# Altium footprint library Keyboard_parts.PcbLib: 22 footprints (part 1 of 2)
Each footprint in its own frame and in the unit in brackets; x right, y up, seen from the top. Pads: shape width x height; smd on the part's side, far side on the other; paste and mask are expansions set on the pad; w line width, h text height; cw(c..) or ccw(c..) is an arc to the next point about the centre after c.
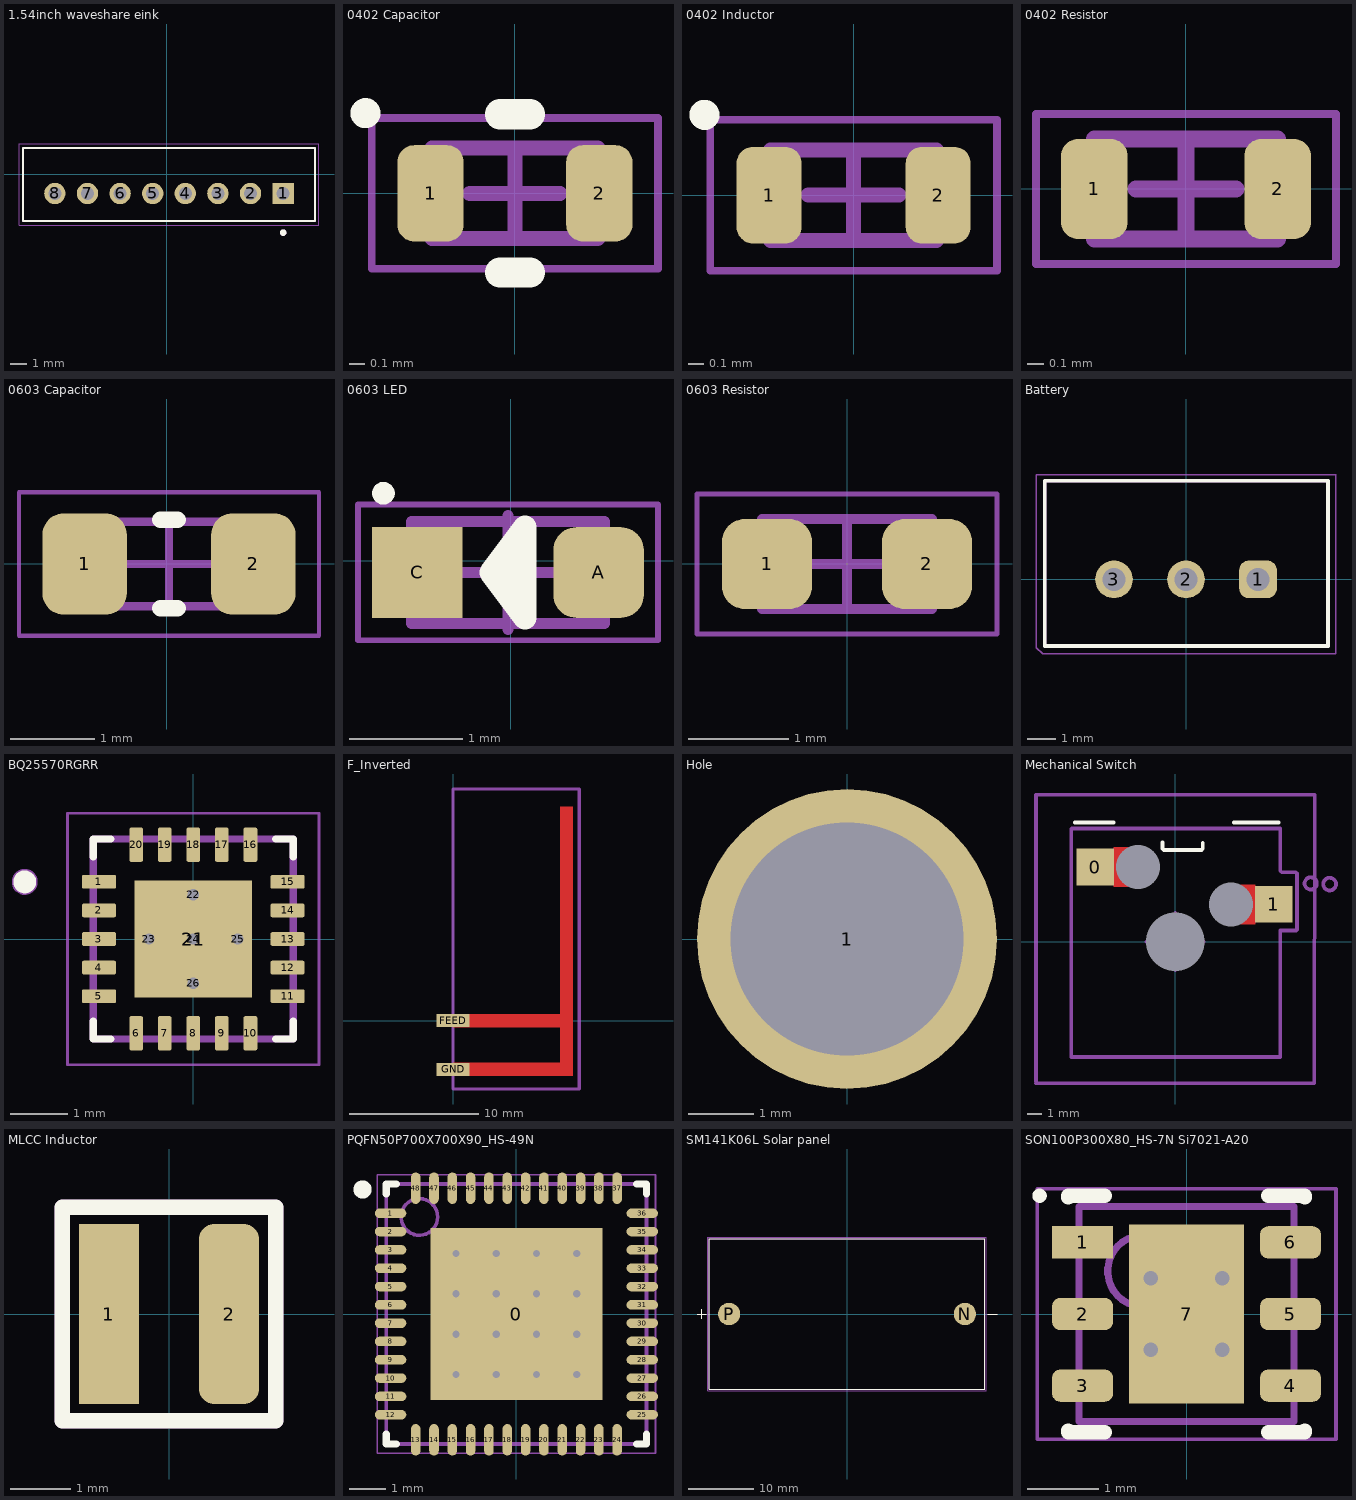
[diagram p0: the footprints below, top view; thin cyan lines are the x and y axes]

## 1.54inch waveshare eink [mm] "200x200, 1.54inch E-Ink display module"
pads (8):
  rect 1.308x1.308 / inner round 1.308 / far side rect 1.308x1.308 hole 0.8: 1(7.127,-1.185)
  round 1.308 hole 0.8: 2(5.127,-1.185) 3(3.127,-1.185) 4(1.127,-1.185) 5(-0.873,-1.185) 6(-2.873,-1.185) 7(-4.873,-1.185) 8(-6.873,-1.185)
Top Overlay:
  circle w0.2: c7.127,-3.585 r0.1
  lines w0.127: -8.823,-2.885 9.077,-2.885 9.077,1.615 -8.823,1.615 -8.823,-2.885
Mechanical 13:
  circle w0.2: c7.127,-3.585 r0.1
  lines w0.127: -8.823,-2.885 -8.823,1.615 9.077,1.615 9.077,-2.885 -8.823,-2.885
Mechanical 15:
  lines w0.05: -9.073,-3.135 -9.073,1.865 9.327,1.865 9.327,-3.135 -9.073,-3.135
3D body "step_temp.STEP": height 6, standoff -3.4, extent -8.756,-2.885 9.144,1.615

## 0402 Capacitor [mm]
height 0.55
pads (2):
  rrect50% 0.44x0.64 smd: 1(-0.56,0) 2(0.56,0)
Top Overlay:
  circle w0.1: c-0.992,0.532 r0.05
  lines w0.2: -0.1,-0.525 0.1,-0.525 ; -0.1,0.525 0.1,0.525
Mechanical 13:
  lines w0.1: -0.55,-0.3 -0.55,0.3 0.55,0.3 0.55,-0.3 -0.55,-0.3
  text ".Designator" at -0.55,-0.3 h0.4
Mechanical 15:
  lines w0.05: -0.95,-0.5 -0.95,0.5 0.95,0.5 0.95,-0.5 -0.95,-0.5
  lines w0.1: -0.3,0 0.3,0 ; 0,-0.3 0,0.3
3D body "Chip2PinSM127P600-8N.step": height 0.55, standoff 0, extent -0.55,-0.3 0.55,0.3

## 0402 Inductor [mm]
height 0.55
pads (2):
  rrect50% 0.43x0.64 smd: 1(-0.56,0) 2(0.56,0)
Top Overlay:
  circle w0.1: c-0.987,0.532 r0.05
Mechanical 13:
  lines w0.1: -0.55,-0.3 0.55,-0.3 0.55,0.3 -0.55,0.3 -0.55,-0.3
  text ".Designator" at -0.55,-0.3 h0.4
Mechanical 15:
  lines w0.05: -0.95,-0.5 0.95,-0.5 0.95,0.5 -0.95,0.5 -0.95,-0.5
  lines w0.1: -0.3,0 0.3,0 ; 0,-0.3 0,0.3
3D body: height 0.55, standoff 0, extent 0.05,-0.3 0.55,0.3
3D body: height 0.55, standoff 0, extent -0.55,-0.3 -0.05,0.3
3D body: height 0.55, standoff 0, extent -0.05,-0.3 0.05,0.3

## 0402 Resistor [mm]
height 0.55
pads (2):
  rrect50% 0.4x0.6 smd: 1(-0.55,0) 2(0.55,0)
Mechanical 13:
  lines w0.1: -0.55,-0.3 0.55,-0.3 0.55,0.3 -0.55,0.3 -0.55,-0.3
  text ".Designator" at -0.55,-0.3 h0.4
Mechanical 15:
  lines w0.05: -0.9,-0.45 0.9,-0.45 0.9,0.45 -0.9,0.45 -0.9,-0.45
  lines w0.1: -0.3,0 0.3,0 ; 0,-0.3 0,0.3
3D body: height 0.55, standoff 0, extent 0.05,-0.3 0.55,0.3
3D body: height 0.55, standoff 0, extent -0.55,-0.3 -0.05,0.3
3D body: height 0.55, standoff 0, extent -0.05,-0.3 0.05,0.3

## 0603 Capacitor [mm] "Chip Capacitor, 2-Leads, Body 1.60x0.80mm, IPC Medium Density"
height 0.55
pads (2):
  rrect50% 1x1.2 smd: 1(-0.975,0) 2(1.025,0)
Top Overlay:
  lines w0.2: -0.075,-0.525 0.125,-0.525 ; -0.075,0.525 0.125,0.525
Mechanical 13:
  lines w0.1: -0.875,-0.5 -0.875,0.5 0.925,0.5 0.925,-0.5 -0.875,-0.5
  text ".Designator" at -0.875,-0.5 h0.4
Mechanical 15:
  lines w0.05: -1.753,-0.85 -1.753,0.85 1.803,0.85 1.803,-0.85 -1.753,-0.85
  lines w0.1: -0.475,0 0.525,0 ; 0.025,-0.5 0.025,0.5
3D body "CAP_0603_1608X10.step": height 1, standoff 0, extent -0.875,-0.5 0.925,0.5

## 0603 LED [mm] "SODFL, 2-Leads, Body 0.80x1.80mm, IPC Medium Density"
pads (2):
  rrect50% 0.8x0.8 smd: A(0.775,-0.102)
  rect 0.8x0.8 smd: C(-0.825,-0.102)
Top Overlay:
  circle w0.1: c-1.125,0.598 r0.05
  lines w0.2: -0.175,-0.102 0.025,-0.102
  lines w0.205: -0.175,-0.102 0.125,-0.502 0.125,0.298 -0.175,-0.102
Mechanical 13:
  lines w0.1: -0.875,-0.552 -0.875,0.348 0.825,0.348 0.825,-0.552 -0.875,-0.552
Mechanical 15:
  lines w0.05: -1.35,-0.702 -1.35,0.498 1.3,0.498 1.3,-0.702 -1.35,-0.702
  lines w0.1: -0.525,-0.102 0.475,-0.102 ; -0.025,-0.602 -0.025,0.398
3D body "LED_0603_WURTH_WL-SMCW_lens.step": height 0.71, standoff 0.31, extent -0.575,-0.502 0.525,0.298
3D body "LED_0603_WURTH_WL-SMCW_base.step": height 0.65, standoff 0.01, extent -0.825,-0.501 0.775,0.298

## 0603 Resistor [mm] "Common footprint for 0603 resistor"
pads (2):
  rrect50% 0.9x0.9 smd: 1(-0.8,0) 2(0.8,0)
Mechanical 13:
  lines w0.1: -0.85,-0.45 0.85,-0.45 0.85,0.45 -0.85,0.45 -0.85,-0.45
  text ".Designator" at -0.635,-0.254 h0.4
Mechanical 15:
  lines w0.05: -1.5,-0.7 1.5,-0.7 1.5,0.7 -1.5,0.7 -1.5,-0.7
  lines w0.1: -0.45,0 0.45,0 ; 0,-0.45 0,0.45
3D body "0603_1608X05N.step": height 0.45, standoff 0, extent -0.775,-0.425 0.775,0.425

## Battery [mm] "404852 3.7 V Lithium-Ion Battery Rechargeable (Secondary) 1.05Ah"
pads (3):
  rrect50% 1.308x1.308 hole 0.8: 1(2.5,0)
  round 1.308 hole 0.8: 2(0,0) 3(-2.5,0)
Top Overlay:
  lines w0.127: -4.902,-2.311 -4.902,3.429 4.928,3.429 4.928,-2.311 -4.902,-2.311
Mechanical 13:
  lines w0.127: -4.902,-2.311 -4.902,3.429 4.928,3.429 4.928,-2.311 -4.902,-2.311
Mechanical 15:
  lines w0.05: -5.207,3.632 5.199,3.632 ; -5.2,3.632 -5.2,-2.369 -4.978,-2.591 5.207,-2.591 5.199,3.658
3D body "B3B-XH-A-LF--SN---3DModel-STEP-418109.STEP": height 6.51, standoff -3.89, extent -4.922,-2.367 4.978,3.383

## BQ25570RGRR [mm] "Energy Harvesting PMIC 20-VQFN (3.5x3.5) IC ENERGY HARV CTRLR BATT 20VQFN"
pads (26):
  rrect27% 0.6x0.24 smd mask+0: 1(-1.65,1) 2(-1.65,0.5) 3(-1.65,0) 4(-1.65,-0.5) 5(-1.65,-1) 11(1.65,-1) 12(1.65,-0.5) 13(1.65,0) 14(1.65,0.5) 15(1.65,1)
  rrect27% 0.24x0.6 smd mask+0: 6(-1,-1.65) 7(-0.5,-1.65) 8(0,-1.65) 9(0.5,-1.65) 10(1,-1.65) 16(1,1.65) 17(0.5,1.65) 18(0,1.65) 19(-0.5,1.65) 20(-1,1.65)
  rect 2.05x2.05 smd paste-2 mask+0.07: 21(0,0)
  round 0.3 hole 0.2 mask+0: 22(0,0.775) 23(-0.775,0) 24(0,0) 25(0.775,0) 26(0,-0.775)
Top Overlay:
  circle w0.2: c-2.95,1 r0.1
  lines w0.127: -1.75,-1.44 -1.75,-1.75 -1.44,-1.75 ; -1.75,1.44 -1.75,1.75 -1.44,1.75 ; 1.44,-1.75 1.75,-1.75 1.75,-1.44 ; 1.44,1.75 1.75,1.75 1.75,1.44
Top Paste:
  region: -0.1,0.1 -1.02,0.1 -1.02,1.02 -0.1,1.02
  region: 1.02,0.1 0.1,0.1 0.1,1.02 1.02,1.02
  region: -0.1,-1.02 -1.02,-1.02 -1.02,-0.1 -0.1,-0.1
  region: 1.02,-1.02 0.1,-1.02 0.1,-0.1 1.02,-0.1
Top Solder:
  drawing of 20 lines, arcs and shapes, not listed
Mechanical 13:
  circle w0.254: c-2.95,1 r0.1
  circle w0.2: c-2.95,1 r0.1
  lines w0.127: -1.75,-1.75 1.75,-1.75 1.75,1.75 -1.75,1.75 -1.75,-1.75
  text ".Designator" at -1.65,-1.317 h1
Mechanical 15:
  lines w0.05: -2.2,-2.2 -2.2,2.2 2.2,2.2 2.2,-2.2 -2.2,-2.2
  lines w0.1: -0.4,0 0,0 ; 0,-0.4 0,0 ; 0,0.4 0,0 ; 0.4,0 0,0
3D body "step_temp.STEP": height 1, standoff 0, extent -1.75,-1.75 1.75,1.75

## F_Inverted [mil] "inverted f antenna with 50 ohm impedence matching"
pads (2):
  rect 100x40 smd mask-39.37: FEED(0,0) GND(0,-149)
Top Layer:
  region: 0,20 327,20 327,653 366,653 366,-169 0,-169 0,-129 327,-129 327,-20 51,-20 0,-20
Top Overlay:
  text ".Designator" at 25,696 h30
Mechanical 15:
  lines w10: 0,-209 0,-129 0,707 1,708 386,708 386,-209 2,-209

## Hole [mil]
pads (1):
  round 180 hole 140: 1(0,0)

## Mechanical Switch [mm] "Compatible with any 3-Pin/5-Pin MX mechanical keyboard with SMD-LED light or RGB-SMD light."
pads (5):
  rect 2.55x2.5 smd: 0(-5.461,5.1) 1(6.731,2.56)
  round 0 hole 3 unplated: 4(3.81,2.56) 5(-2.54,5.1)
  round 0 hole 4 unplated: 8(0,0)
Top Layer:
  region: -4.191,6.446 -3.2,6.446 -3.2,3.754 -4.191,3.754
  region: 4.47,3.906 5.461,3.906 5.461,1.214 4.47,1.214
Top Overlay:
  lines w0.254: -6.833,8.148 -4.216,8.148 ; -0.864,6.802 -0.864,6.345 -0.787,6.268 1.803,6.268 1.88,6.345 1.88,6.751 ; 3.988,8.148 7.061,8.148
Top Paste:
  region: -4.216,6.446 -4.216,3.754 -3.226,3.754 -3.124,3.855 -3.124,6.446
  region: 5.461,1.214 5.461,3.906 4.394,3.906 4.394,1.214
Mechanical 13:
  circle w0.254: c9.246,3.982 r0.417
  lines w0.254: -7.087,-7.859 -7.087,7.711 -7.061,7.736 7.163,7.736 7.163,4.841 7.264,4.739 8.23,4.739 8.306,4.663 8.306,0.827 8.255,0.777 7.163,0.777 7.163,-7.859 -7.087,-7.859
  text ".Designator" at -6.947,-7.386 h1
Mechanical 15:
  circle w0.254: c10.541,3.937 r0.433
  lines w0.254: -9.5,-9.652 9.498,-9.652 9.525,10.033 -9.5,10.033 -9.5,-9.5 ; -1.956,0 1.956,0 ; 0,-1.936 0,1.976
3D body "PG151101S11--3DModel-STEP-1.STEP": height 1.76, standoff -1.34, extent -6.666,0.91 7.834,6.8
3D body "Kailh Polia.step": height 3.81, standoff -14.74, extent -6.985,-7.856 6.965,7.744

## MLCC Inductor [mm] "2.2 µH Shielded Drum Core, Wirewound Inductor 1.8 A 66mOhm Max Nonstandard"
pads (2):
  rect 1x3 smd: 1(-1,0)
  rrect50% 1x3 smd: 2(1,0)
Top Overlay:
  lines w0.254: -1.778,-1.778 1.778,-1.778 1.778,1.778 -1.778,1.778 -1.778,1.524 -1.778,-1.778
Mechanical 13:
  lines w0.254: -1.778,-1.778 1.778,-1.778 1.778,1.778 -1.778,1.778 -1.778,-1.778
  text ".Designator" at -1.524,-1.016 h1.52
3D body "744025001_Download_STP_WE-TPC-2828_rev1.stp": height 2.5, standoff -0.3, extent -1.4,-1.4 1.4,1.4

## PQFN50P700X700X90_HS-49N [mm] "PQFN, 48-Leads, Body 7.00x7.00mm, Pitch 0.50mm, Thermal Pad 4.70x4.70mm, IPC Medium Density"
height 0.9
pads (49):
  rect 4.7x4.7 smd: 0(0,0)
  oval 0.86x0.26 smd: 1(-3.435,2.75) 2(-3.435,2.25) 3(-3.435,1.75) 4(-3.435,1.25) 5(-3.435,0.75) 6(-3.435,0.25) 7(-3.435,-0.25) 8(-3.435,-0.75) 9(-3.435,-1.25) 10(-3.435,-1.75) 11(-3.435,-2.25) 12(-3.435,-2.75) 25(3.435,-2.75) 26(3.435,-2.25) 27(3.435,-1.75) 28(3.435,-1.25) 29(3.435,-0.75) 30(3.435,-0.25) 31(3.435,0.25) 32(3.435,0.75) 33(3.435,1.25) 34(3.435,1.75) 35(3.435,2.25) 36(3.435,2.75)
  oval 0.26x0.86 smd: 13(-2.75,-3.435) 14(-2.25,-3.435) 15(-1.75,-3.435) 16(-1.25,-3.435) 17(-0.75,-3.435) 18(-0.25,-3.435) 19(0.25,-3.435) 20(0.75,-3.435) 21(1.25,-3.435) 22(1.75,-3.435) 23(2.25,-3.435) 24(2.75,-3.435) 37(2.75,3.435) 38(2.25,3.435) 39(1.75,3.435) 40(1.25,3.435) 41(0.75,3.435) 42(0.25,3.435) 43(-0.25,3.435) 44(-0.75,3.435) 45(-1.25,3.435) 46(-1.75,3.435) 47(-2.25,3.435) 48(-2.75,3.435)
via 1.65,-1.65 diameter 0.5 hole 0.2
via 0.55,-1.65 diameter 0.5 hole 0.2
via -0.55,-1.65 diameter 0.5 hole 0.2
via -1.65,-1.65 diameter 0.5 hole 0.2
via 1.65,-0.55 diameter 0.5 hole 0.2
via 0.55,-0.55 diameter 0.5 hole 0.2
via -0.55,-0.55 diameter 0.5 hole 0.2
via -1.65,-0.55 diameter 0.5 hole 0.2
via 1.65,0.55 diameter 0.5 hole 0.2
via 0.55,0.55 diameter 0.5 hole 0.2
via -0.55,0.55 diameter 0.5 hole 0.2
via -1.65,0.55 diameter 0.5 hole 0.2
via 1.65,1.65 diameter 0.5 hole 0.2
via 0.55,1.65 diameter 0.5 hole 0.2
via -0.55,1.65 diameter 0.5 hole 0.2
via -1.65,1.65 diameter 0.5 hole 0.2
Top Overlay:
  circle w0.25: c-4.2,3.4 r0.125
  lines w0.2: -3.55,-3.28 -3.55,-3.55 -3.28,-3.55 ; -3.55,3.28 -3.55,3.55 -3.28,3.55 ; 3.28,-3.55 3.55,-3.55 3.55,-3.28 ; 3.28,3.55 3.55,3.55 3.55,3.28
Mechanical 13:
  circle w0.1: c-2.65,2.65 r0.5
  lines w0.1: -3.55,-3.55 3.55,-3.55 3.55,3.55 -3.55,3.55 -3.55,-3.55
  text ".Designator" at -3.396,-3.063 h1
Mechanical 15:
  lines w0.05: -3.8,-3.8 3.8,-3.8 3.8,3.8 -3.8,3.8 -3.8,-3.8
  lines w0.1: -0.5,0 0.5,0 ; 0,-0.5 0,0.5
3D body "PQFN50P700X700X90_HS-49N.step": height 0.9, standoff 0, extent -3.55,-3.55 3.55,3.55

## SM141K06L Solar panel [mm] "Monocrystalline Solar Cell 184 mW 4.15 V"
pads (2):
  round 3.4 smd: N(18,0) P(-18,0)
Top Overlay:
  lines w0.127: -22.9,0 -21.5,0 ; -22.2,-0.7 -22.2,0.7 ; 21.5,0 22.9,0 ; -21,-11.5 -21,11.5 21,11.5 21,-11.5 -21,-11.5
Mechanical 13:
  lines w0.127: -22.9,0 -21.5,0 ; -22.2,-0.7 -22.2,0.7 ; 21.5,0 22.9,0 ; -21,-11.5 -21,11.5 21,11.5 21,-11.5 -21,-11.5
Mechanical 15:
  lines w0.05: -21.25,-11.75 -21.25,11.75 21.25,11.75 21.25,-11.75 -21.25,-11.75

## SON100P300X80_HS-7N Si7021-A20 [mm] "SON, 6-Leads, Body 3.00x3.00mm, Pitch 1.00mm, Thermal Pad 2.40x1.50mm, IPC Medium Density /  / Humidity, Temperature 0 ~ 100% RH I2C ±3% RH 18 s Surface Mount"
height 0.8
pads (7):
  rect 0.85x0.45 smd mask+0.07: 1(-1.45,1)
  rrect50% 0.85x0.45 smd mask+0.07: 2(-1.45,0) 3(-1.45,-1) 4(1.45,-1) 5(1.45,0) 6(1.45,1)
  rect 1.6x2.5 smd paste-1 mask+0.07: 7(0,0)
via -0.5,0.5 diameter 0.5 hole 0.2
via 0.5,0.5 diameter 0.5 hole 0.2
via -0.5,-0.5 diameter 0.5 hole 0.2
via 0.5,-0.5 diameter 0.5 hole 0.2
Top Overlay:
  circle w0.1: c-2.05,1.65 r0.05
  lines w0.2: -1.65,-1.625 -1.65,-1.65 -1.14,-1.65 ; -1.65,1.625 -1.65,1.65 -1.14,1.65 ; 1.14,-1.65 1.65,-1.65 1.65,-1.625 ; 1.14,1.65 1.65,1.65 1.65,1.625
Top Paste:
  rectangle: -0.813,0.152 0.813,1.27
  rectangle: -0.813,-1.27 0.813,-0.152
Mechanical 13:
  circle w0.1: c-0.6,0.6 r0.5
  lines w0.1: -1.5,-1.5 -1.5,1.5 1.5,1.5 1.5,-1.5 -1.5,-1.5
  text ".Designator" at -1.4,-1.067 h1
Mechanical 15:
  lines w0.05: -2.085,-1.75 -2.085,1.75 2.085,1.75 2.085,-1.75 -2.085,-1.75
  lines w0.1: -0.5,0 0.5,0 ; 0,-0.5 0,0.5
3D body "SON100P300X80_HS-7N Si7021-A20.step": height 0.8, standoff 0, extent -1.55,-1.5 1.55,1.5